# EAGLE library part MOLEX-2X03 (library Header and Connector)
Molex 2x3 Ways Connector Created by: Wai Weng
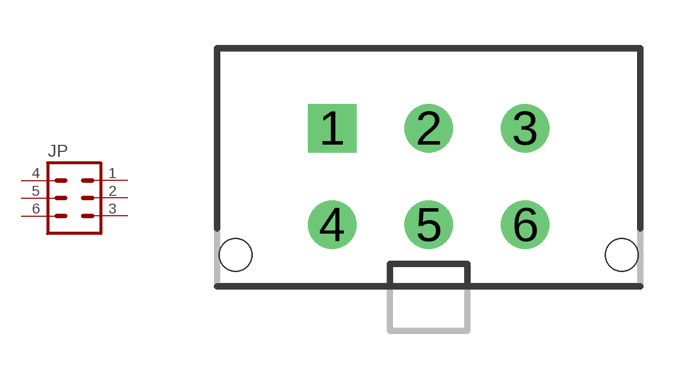
[diagram p42: symbol with the pads of MOLEX-43045-0612; footprint MOLEX-43045-0612]

Designator prefix JP

## MOLEX-2X03_(MICROFIT-3.0-TH) (DESC: Molex Micro-Fit 3.0 2x3; MF: Molex; MPN: 43045-0612; VALUE: 2x3 Ways)  [MOLEX-43045-0612]
1  2  pas
2  4  pas
3  6  pas
4  1  pas
5  3  pas
6  5  pas

## Footprint MOLEX-43045-0612 (pad centres in mm)
Molex Micro-Fit 3.0 2x3 Ways Created by: Wai Weng
drill 1 square: 1 -3,1.215
drill 1: 2 0,1.215; 3 3,1.215; 4 -3,-1.785; 5 0,-1.785; 6 3,-1.785
hole 1 at -6,-2.725
hole 1 at 6,-2.725